# Altium footprint library KF128_3.18mm.PcbLib: 15 footprints
Each footprint in its own frame and in the unit in brackets; x right, y up, seen from the top. Pads: shape width x height; smd on the part's side, far side on the other; paste and mask are expansions set on the pad; w line width, h text height; cw(c..) or ccw(c..) is an arc to the next point about the centre after c.
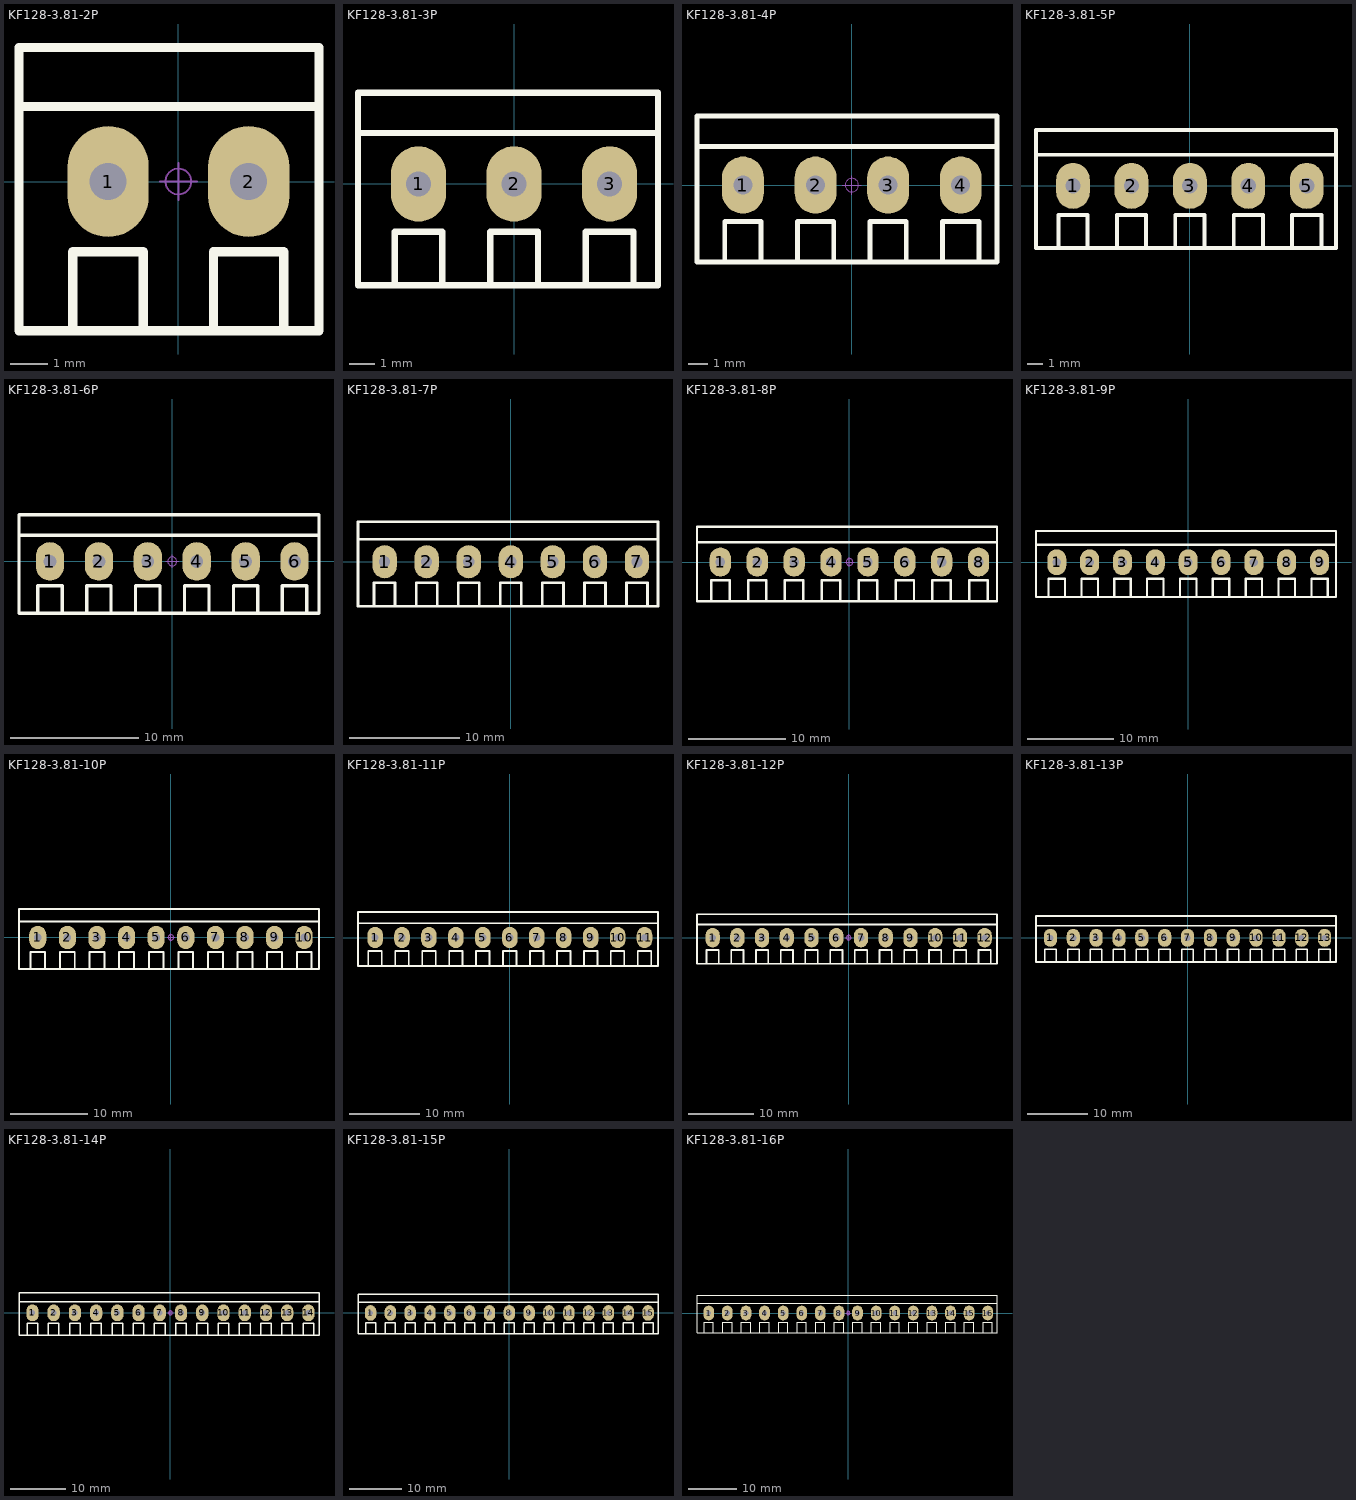
[diagram p0: the footprints below, top view; thin cyan lines are the x and y axes]

## KF128-3.81-2P [mm] "Screw Connector, Pitch 3.81mm"
pads (2):
  oval 2.2x3 hole 1: 1(-1.905,0) 2(1.905,0)
Top Overlay:
  lines w0.254: -4.318,2.032 3.81,2.032 ; -2.857,-4.039 -2.857,-1.905 -0.953,-1.905 -0.953,-4.039 ; 0.953,-4.039 0.953,-1.905 2.857,-1.905 2.857,-4.039 ; -4.318,-4.039 -4.318,3.632 3.81,3.632 3.81,-4.039 -4.318,-4.039
Mechanical 15:
  circle w0.05: c0,0 r0.35
  lines w0.05: -0.5,0 0.5,0 ; 0,-0.5 0,0.5
3D body "KF128.STEP": height 8.55, standoff -3.95, extent -0.5,-3.9 3.81,3.5
3D body "KF128.STEP": height 8.55, standoff -3.95, extent -4.31,-3.9 0,3.5

## KF128-3.81-3P [mm] "Screw Connector, Pitch 3.81mm"
pads (3):
  oval 2.2x3 hole 1: 1(-3.81,0) 2(0,0) 3(3.81,0)
Top Overlay:
  lines w0.254: -6.223,2.032 5.74,2.032 ; -4.763,-4.039 -4.763,-1.905 -2.857,-1.905 -2.857,-4.039 ; -0.953,-4.039 -0.953,-1.905 0.953,-1.905 0.953,-4.039 ; 2.857,-4.039 2.857,-1.905 4.763,-1.905 4.763,-4.039 ; -6.223,-4.039 -6.223,3.632 5.74,3.632 5.74,-4.039 -6.223,-4.039
Mechanical 15:
  circle w0.05: c0,0 r0.35
  lines w0.05: -0.5,0 0.5,0 ; 0,-0.5 0,0.5
3D body "KF128.STEP": height 8.55, standoff -3.95, extent -2.405,-3.9 1.905,3.5
3D body "KF128.STEP": height 8.55, standoff -3.95, extent -6.215,-3.9 -1.905,3.5
3D body "KF128.STEP": height 8.55, standoff -3.95, extent 1.405,-3.9 5.715,3.5

## KF128-3.81-4P [mm] "Screw Connector, Pitch 3.81mm"
pads (4):
  oval 2.2x3 hole 1: 1(-5.715,0) 2(-1.905,0) 3(1.905,0) 4(5.715,0)
Top Overlay:
  lines w0.254: -8.128,2.032 7.62,2.032 ; -6.667,-4.039 -6.667,-1.905 -4.763,-1.905 -4.763,-4.039 ; -2.857,-4.039 -2.857,-1.905 -0.953,-1.905 -0.953,-4.039 ; 0.953,-4.039 0.953,-1.905 2.857,-1.905 2.857,-4.039 ; 4.763,-4.039 4.763,-1.905 6.667,-1.905 6.667,-4.039 ; -8.128,-4.039 7.62,-4.039 7.62,3.632 -8.128,3.632 -8.128,-4.039
Mechanical 15:
  circle w0.05: c0,0 r0.35
  lines w0.05: -0.5,0 0.5,0 ; 0,-0.5 0,0.5
3D body "KF128.STEP": height 8.55, standoff -3.95, extent -8.12,-3.9 -3.81,3.5
3D body "KF128.STEP": height 8.55, standoff -3.95, extent -4.31,-3.9 0,3.5
3D body "KF128.STEP": height 8.55, standoff -3.95, extent 3.31,-3.9 7.62,3.5
3D body "KF128.STEP": height 8.55, standoff -3.95, extent -0.5,-3.9 3.81,3.5

## KF128-3.81-5P [mm] "Screw Connector, Pitch 3.81mm"
pads (5):
  oval 2.2x3 hole 1: 1(-7.62,0) 2(-3.81,0) 3(0,0) 4(3.81,0) 5(7.62,0)
Top Overlay:
  lines w0.254: -10.033,2.032 9.525,2.032 ; -8.572,-4.039 -8.572,-1.905 -6.667,-1.905 -6.667,-4.039 ; -4.763,-4.039 -4.763,-1.905 -2.857,-1.905 -2.857,-4.039 ; -0.953,-4.039 -0.953,-1.905 0.953,-1.905 0.953,-4.039 ; 2.857,-4.039 2.857,-1.905 4.763,-1.905 4.763,-4.039 ; 6.667,-4.039 6.667,-1.905 8.572,-1.905 8.572,-4.039 ; -10.033,-4.039 -10.033,3.632 9.525,3.632 9.525,-4.039 -10.033,-4.039
Mechanical 15:
  circle w0.05: c0,0 r0.35
  lines w0.05: -0.5,0 0.5,0 ; 0,-0.5 0,0.5
3D body "KF128.STEP": height 8.55, standoff -3.95, extent -2.405,-3.9 1.905,3.5
3D body "KF128.STEP": height 8.55, standoff -3.95, extent 1.405,-3.9 5.715,3.5
3D body "KF128.STEP": height 8.55, standoff -3.95, extent -6.215,-3.9 -1.905,3.5
3D body "KF128.STEP": height 8.55, standoff -3.95, extent -10.025,-3.9 -5.715,3.5
3D body "KF128.STEP": height 8.55, standoff -3.95, extent 5.215,-3.9 9.525,3.5

## KF128-3.81-6P [mm] "Screw Connector, Pitch 3.81mm"
pads (6):
  oval 2.2x3 hole 1: 1(-9.525,0) 2(-5.715,0) 3(-1.905,0) 4(1.905,0) 5(5.715,0) 6(9.525,0)
Top Overlay:
  lines w0.254: -11.938,2.032 11.43,2.032 ; -10.477,-4.039 -10.477,-1.905 -8.572,-1.905 -8.572,-4.039 ; -6.667,-4.039 -6.667,-1.905 -4.763,-1.905 -4.763,-4.039 ; -2.857,-4.039 -2.857,-1.905 -0.953,-1.905 -0.953,-4.039 ; 0.953,-4.039 0.953,-1.905 2.857,-1.905 2.857,-4.039 ; 4.763,-4.039 4.763,-1.905 6.667,-1.905 6.667,-4.039 ; 8.572,-4.039 8.572,-1.905 10.477,-1.905 10.477,-4.039 ; -11.938,-4.039 11.43,-4.039 11.43,3.632 -11.938,3.632 -11.938,-4.039
Mechanical 15:
  circle w0.05: c0,0 r0.35
  lines w0.05: -0.5,0 0.5,0 ; 0,-0.5 0,0.5
3D body "KF128.STEP": height 8.55, standoff -3.95, extent 3.31,-3.9 7.62,3.5
3D body "KF128.STEP": height 8.55, standoff -3.95, extent -11.93,-3.9 -7.62,3.5
3D body "KF128.STEP": height 8.55, standoff -3.95, extent -8.12,-3.9 -3.81,3.5
3D body "KF128.STEP": height 8.55, standoff -3.95, extent -0.5,-3.9 3.81,3.5
3D body "KF128.STEP": height 8.55, standoff -3.95, extent -4.31,-3.9 0,3.5
3D body "KF128.STEP": height 8.55, standoff -3.95, extent 7.12,-3.9 11.43,3.5

## KF128-3.81-7P [mm] "Screw Connector, Pitch 3.81mm"
pads (7):
  oval 2.2x3 hole 1: 1(-11.43,0) 2(-7.62,0) 3(-3.81,0) 4(0,0) 5(3.81,0) 6(7.62,0) 7(11.43,0)
Top Overlay:
  lines w0.254: -13.843,2.032 13.335,2.032 ; -12.383,-4.039 -12.383,-1.905 -10.477,-1.905 -10.477,-4.039 ; -8.572,-4.039 -8.572,-1.905 -6.667,-1.905 -6.667,-4.039 ; -4.763,-4.039 -4.763,-1.905 -2.857,-1.905 -2.857,-4.039 ; -0.953,-4.039 -0.953,-1.905 0.953,-1.905 0.953,-4.039 ; 2.857,-4.039 2.857,-1.905 4.763,-1.905 4.763,-4.039 ; 6.667,-4.039 6.667,-1.905 8.572,-1.905 8.572,-4.039 ; 10.477,-4.039 10.477,-1.905 12.383,-1.905 12.383,-4.039 ; -13.843,-4.039 13.335,-4.039 13.335,3.632 -13.843,3.632 -13.843,-4.039
Mechanical 15:
  circle w0.05: c0,0 r0.35
  lines w0.05: -0.5,0 0.5,0 ; 0,-0.5 0,0.5
3D body "KF128.STEP": height 8.55, standoff -3.95, extent 1.405,-3.9 5.715,3.5
3D body "KF128.STEP": height 8.55, standoff -3.95, extent -13.835,-3.9 -9.525,3.5
3D body "KF128.STEP": height 8.55, standoff -3.95, extent -10.025,-3.9 -5.715,3.5
3D body "KF128.STEP": height 8.55, standoff -3.95, extent -2.405,-3.9 1.905,3.5
3D body "KF128.STEP": height 8.55, standoff -3.95, extent -6.215,-3.9 -1.905,3.5
3D body "KF128.STEP": height 8.55, standoff -3.95, extent 5.215,-3.9 9.525,3.5
3D body "KF128.STEP": height 8.55, standoff -3.95, extent 9.025,-3.9 13.335,3.5

## KF128-3.81-8P [mm] "Screw Connector, Pitch 3.81mm"
pads (8):
  oval 2.2x3 hole 1: 1(-13.335,0) 2(-9.525,0) 3(-5.715,0) 4(-1.905,0) 5(1.905,0) 6(5.715,0) 7(9.525,0) 8(13.335,0)
Top Overlay:
  lines w0.254: -15.748,2.032 15.24,2.032 ; -14.287,-4.039 -14.287,-1.905 -12.383,-1.905 -12.383,-4.039 ; -10.477,-4.039 -10.477,-1.905 -8.572,-1.905 -8.572,-4.039 ; -6.667,-4.039 -6.667,-1.905 -4.763,-1.905 -4.763,-4.039 ; -2.857,-4.039 -2.857,-1.905 -0.953,-1.905 -0.953,-4.039 ; 0.953,-4.039 0.953,-1.905 2.857,-1.905 2.857,-4.039 ; 4.763,-4.039 4.763,-1.905 6.667,-1.905 6.667,-4.039 ; 8.572,-4.039 8.572,-1.905 10.477,-1.905 10.477,-4.039 ; 12.383,-4.039 12.383,-1.905 14.287,-1.905 14.287,-4.039 ; -15.748,-4.039 15.24,-4.039 15.24,3.632 -15.748,3.632 -15.748,-4.039
Mechanical 15:
  circle w0.05: c0,0 r0.35
  lines w0.05: -0.5,0 0.5,0 ; 0,-0.5 0,0.5
3D body "KF128.STEP": height 8.55, standoff -3.95, extent 10.93,-3.9 15.24,3.5
3D body "KF128.STEP": height 8.55, standoff -3.95, extent -0.5,-3.9 3.81,3.5
3D body "KF128.STEP": height 8.55, standoff -3.95, extent -15.74,-3.9 -11.43,3.5
3D body "KF128.STEP": height 8.55, standoff -3.95, extent -11.93,-3.9 -7.62,3.5
3D body "KF128.STEP": height 8.55, standoff -3.95, extent -4.31,-3.9 0,3.5
3D body "KF128.STEP": height 8.55, standoff -3.95, extent -8.12,-3.9 -3.81,3.5
3D body "KF128.STEP": height 8.55, standoff -3.95, extent 3.31,-3.9 7.62,3.5
3D body "KF128.STEP": height 8.55, standoff -3.95, extent 7.12,-3.9 11.43,3.5

## KF128-3.81-9P [mm] "Screw Connector, Pitch 3.81mm"
pads (9):
  oval 2.2x3 hole 1: 1(-15.24,0) 2(-11.43,0) 3(-7.62,0) 4(-3.81,0) 5(0,0) 6(3.81,0) 7(7.62,0) 8(11.43,0) 9(15.24,0)
Top Overlay:
  lines w0.254: -17.653,2.032 17.145,2.032 ; -16.192,-4.039 -16.192,-1.905 -14.287,-1.905 -14.287,-4.039 ; -12.383,-4.039 -12.383,-1.905 -10.477,-1.905 -10.477,-4.039 ; -8.572,-4.039 -8.572,-1.905 -6.667,-1.905 -6.667,-4.039 ; -4.763,-4.039 -4.763,-1.905 -2.857,-1.905 -2.857,-4.039 ; -0.953,-4.039 -0.953,-1.905 0.953,-1.905 0.953,-4.039 ; 2.857,-4.039 2.857,-1.905 4.763,-1.905 4.763,-4.039 ; 6.667,-4.039 6.667,-1.905 8.572,-1.905 8.572,-4.039 ; 10.477,-4.039 10.477,-1.905 12.383,-1.905 12.383,-4.039 ; 14.287,-4.039 14.287,-1.905 16.192,-1.905 16.192,-4.039 ; -17.653,-4.039 -17.653,3.632 17.145,3.632 17.145,-4.039 -17.653,-4.039
Mechanical 15:
  circle w0.05: c0,0 r0.35
  lines w0.05: -0.5,0 0.5,0 ; 0,-0.5 0,0.5
3D body "KF128.STEP": height 8.55, standoff -3.95, extent 12.835,-3.9 17.145,3.5
3D body "KF128.STEP": height 8.55, standoff -3.95, extent 5.215,-3.9 9.525,3.5
3D body "KF128.STEP": height 8.55, standoff -3.95, extent 1.405,-3.9 5.715,3.5
3D body "KF128.STEP": height 8.55, standoff -3.95, extent -10.025,-3.9 -5.715,3.5
3D body "KF128.STEP": height 8.55, standoff -3.95, extent -6.215,-3.9 -1.905,3.5
3D body "KF128.STEP": height 8.55, standoff -3.95, extent -13.835,-3.9 -9.525,3.5
3D body "KF128.STEP": height 8.55, standoff -3.95, extent -17.645,-3.9 -13.335,3.5
3D body "KF128.STEP": height 8.55, standoff -3.95, extent -2.405,-3.9 1.905,3.5
3D body "KF128.STEP": height 8.55, standoff -3.95, extent 9.025,-3.9 13.335,3.5

## KF128-3.81-10P [mm] "Screw Connector, Pitch 3.81mm"
pads (10):
  oval 2.2x3 hole 1: 1(-17.145,0) 2(-13.335,0) 3(-9.525,0) 4(-5.715,0) 5(-1.905,0) 6(1.905,0) 7(5.715,0) 8(9.525,0) 9(13.335,0) 10(17.145,0)
Top Overlay:
  lines w0.254: -19.558,2.032 19.05,2.032 ; -18.098,-4.039 -18.098,-1.905 -16.192,-1.905 -16.192,-4.039 ; -14.287,-4.039 -14.287,-1.905 -12.383,-1.905 -12.383,-4.039 ; -10.477,-4.039 -10.477,-1.905 -8.572,-1.905 -8.572,-4.039 ; -6.667,-4.039 -6.667,-1.905 -4.763,-1.905 -4.763,-4.039 ; -2.857,-4.039 -2.857,-1.905 -0.953,-1.905 -0.953,-4.039 ; 0.953,-4.039 0.953,-1.905 2.857,-1.905 2.857,-4.039 ; 4.763,-4.039 4.763,-1.905 6.667,-1.905 6.667,-4.039 ; 8.572,-4.039 8.572,-1.905 10.477,-1.905 10.477,-4.039 ; 12.383,-4.039 12.383,-1.905 14.287,-1.905 14.287,-4.039 ; 16.192,-4.039 16.192,-1.905 18.098,-1.905 18.098,-4.039 ; -19.558,-4.039 19.05,-4.039 19.05,3.632 -19.558,3.632 -19.558,-4.039
Mechanical 15:
  circle w0.05: c0,0 r0.35
  lines w0.05: -0.5,0 0.5,0 ; 0,-0.5 0,0.5
3D body "KF128.STEP": height 8.55, standoff -3.95, extent 14.74,-3.9 19.05,3.5
3D body "KF128.STEP": height 8.55, standoff -3.95, extent 7.12,-3.9 11.43,3.5
3D body "KF128.STEP": height 8.55, standoff -3.95, extent -4.31,-3.9 0,3.5
3D body "KF128.STEP": height 8.55, standoff -3.95, extent -19.55,-3.9 -15.24,3.5
3D body "KF128.STEP": height 8.55, standoff -3.95, extent -15.74,-3.9 -11.43,3.5
3D body "KF128.STEP": height 8.55, standoff -3.95, extent -8.12,-3.9 -3.81,3.5
3D body "KF128.STEP": height 8.55, standoff -3.95, extent -11.93,-3.9 -7.62,3.5
3D body "KF128.STEP": height 8.55, standoff -3.95, extent -0.5,-3.9 3.81,3.5
3D body "KF128.STEP": height 8.55, standoff -3.95, extent 3.31,-3.9 7.62,3.5
3D body "KF128.STEP": height 8.55, standoff -3.95, extent 10.93,-3.9 15.24,3.5

## KF128-3.81-11P [mm] "Screw Connector, Pitch 3.81mm"
pads (11):
  oval 2.2x3 hole 1: 1(-19.05,0) 2(-15.24,0) 3(-11.43,0) 4(-7.62,0) 5(-3.81,0) 6(0,0) 7(3.81,0) 8(7.62,0) 9(11.43,0) 10(15.24,0) 11(19.05,0)
Top Overlay:
  lines w0.254: -21.463,2.032 20.955,2.032 ; -20.002,-4.039 -20.002,-1.905 -18.098,-1.905 -18.098,-4.039 ; -16.192,-4.039 -16.192,-1.905 -14.287,-1.905 -14.287,-4.039 ; -12.383,-4.039 -12.383,-1.905 -10.477,-1.905 -10.477,-4.039 ; -8.572,-4.039 -8.572,-1.905 -6.667,-1.905 -6.667,-4.039 ; -4.763,-4.039 -4.763,-1.905 -2.857,-1.905 -2.857,-4.039 ; -0.953,-4.039 -0.953,-1.905 0.953,-1.905 0.953,-4.039 ; 2.857,-4.039 2.857,-1.905 4.763,-1.905 4.763,-4.039 ; 6.667,-4.039 6.667,-1.905 8.572,-1.905 8.572,-4.039 ; 10.477,-4.039 10.477,-1.905 12.383,-1.905 12.383,-4.039 ; 14.287,-4.039 14.287,-1.905 16.192,-1.905 16.192,-4.039 ; 18.098,-4.039 18.098,-1.905 20.002,-1.905 20.002,-4.039 ; -21.463,-4.039 -21.463,3.632 20.955,3.632 20.955,-4.039 -21.463,-4.039
Mechanical 15:
  circle w0.05: c0,0 r0.35
  lines w0.05: -0.5,0 0.5,0 ; 0,-0.5 0,0.5
3D body "KF128.STEP": height 8.55, standoff -3.95, extent 16.645,-3.9 20.955,3.5
3D body "KF128.STEP": height 8.55, standoff -3.95, extent 9.025,-3.9 13.335,3.5
3D body "KF128.STEP": height 8.55, standoff -3.95, extent 1.405,-3.9 5.715,3.5
3D body "KF128.STEP": height 8.55, standoff -3.95, extent -2.405,-3.9 1.905,3.5
3D body "KF128.STEP": height 8.55, standoff -3.95, extent -13.835,-3.9 -9.525,3.5
3D body "KF128.STEP": height 8.55, standoff -3.95, extent -10.025,-3.9 -5.715,3.5
3D body "KF128.STEP": height 8.55, standoff -3.95, extent -17.645,-3.9 -13.335,3.5
3D body "KF128.STEP": height 8.55, standoff -3.95, extent -21.455,-3.9 -17.145,3.5
3D body "KF128.STEP": height 8.55, standoff -3.95, extent -6.215,-3.9 -1.905,3.5
3D body "KF128.STEP": height 8.55, standoff -3.95, extent 5.215,-3.9 9.525,3.5
3D body "KF128.STEP": height 8.55, standoff -3.95, extent 12.835,-3.9 17.145,3.5

## KF128-3.81-12P [mm] "Screw Connector, Pitch 3.81mm"
pads (12):
  oval 2.2x3 hole 1: 1(-20.955,0) 2(-17.145,0) 3(-13.335,0) 4(-9.525,0) 5(-5.715,0) 6(-1.905,0) 7(1.905,0) 8(5.715,0) 9(9.525,0) 10(13.335,0) 11(17.145,0) 12(20.955,0)
Top Overlay:
  lines w0.254: -23.368,2.032 22.86,2.032 ; -21.907,-4.039 -21.907,-1.905 -20.002,-1.905 -20.002,-4.039 ; -18.098,-4.039 -18.098,-1.905 -16.192,-1.905 -16.192,-4.039 ; -14.287,-4.039 -14.287,-1.905 -12.383,-1.905 -12.383,-4.039 ; -10.477,-4.039 -10.477,-1.905 -8.572,-1.905 -8.572,-4.039 ; -6.667,-4.039 -6.667,-1.905 -4.763,-1.905 -4.763,-4.039 ; -2.857,-4.039 -2.857,-1.905 -0.953,-1.905 -0.953,-4.039 ; 0.953,-4.039 0.953,-1.905 2.857,-1.905 2.857,-4.039 ; 4.763,-4.039 4.763,-1.905 6.667,-1.905 6.667,-4.039 ; 8.572,-4.039 8.572,-1.905 10.477,-1.905 10.477,-4.039 ; 12.383,-4.039 12.383,-1.905 14.287,-1.905 14.287,-4.039 ; 16.192,-4.039 16.192,-1.905 18.098,-1.905 18.098,-4.039 ; 20.002,-4.039 20.002,-1.905 21.907,-1.905 21.907,-4.039 ; -23.368,-4.039 -23.368,3.632 22.86,3.632 22.86,-4.039 -23.368,-4.039
Mechanical 15:
  circle w0.05: c0,0 r0.35
  lines w0.05: -0.5,0 0.5,0 ; 0,-0.5 0,0.5
3D body "KF128.STEP": height 8.55, standoff -3.95, extent 14.74,-3.9 19.05,3.5
3D body "KF128.STEP": height 8.55, standoff -3.95, extent 7.12,-3.9 11.43,3.5
3D body "KF128.STEP": height 8.55, standoff -3.95, extent -0.5,-3.9 3.81,3.5
3D body "KF128.STEP": height 8.55, standoff -3.95, extent -4.31,-3.9 0,3.5
3D body "KF128.STEP": height 8.55, standoff -3.95, extent -15.74,-3.9 -11.43,3.5
3D body "KF128.STEP": height 8.55, standoff -3.95, extent -11.93,-3.9 -7.62,3.5
3D body "KF128.STEP": height 8.55, standoff -3.95, extent -19.55,-3.9 -15.24,3.5
3D body "KF128.STEP": height 8.55, standoff -3.95, extent -23.36,-3.9 -19.05,3.5
3D body "KF128.STEP": height 8.55, standoff -3.95, extent -8.12,-3.9 -3.81,3.5
3D body "KF128.STEP": height 8.55, standoff -3.95, extent 3.31,-3.9 7.62,3.5
3D body "KF128.STEP": height 8.55, standoff -3.95, extent 10.93,-3.9 15.24,3.5
3D body "KF128.STEP": height 8.55, standoff -3.95, extent 18.55,-3.9 22.86,3.5

## KF128-3.81-13P [mm] "Screw Connector, Pitch 3.81mm"
pads (13):
  oval 2.2x3 hole 1: 1(-22.86,0) 2(-19.05,0) 3(-15.24,0) 4(-11.43,0) 5(-7.62,0) 6(-3.81,0) 7(0,0) 8(3.81,0) 9(7.62,0) 10(11.43,0) 11(15.24,0) 12(19.05,0) 13(22.86,0)
Top Overlay:
  lines w0.254: -25.273,2.032 24.765,2.032 ; -23.812,-4.039 -23.812,-1.905 -21.907,-1.905 -21.907,-4.039 ; -20.002,-4.039 -20.002,-1.905 -18.098,-1.905 -18.098,-4.039 ; -16.192,-4.039 -16.192,-1.905 -14.287,-1.905 -14.287,-4.039 ; -12.383,-4.039 -12.383,-1.905 -10.477,-1.905 -10.477,-4.039 ; -8.572,-4.039 -8.572,-1.905 -6.667,-1.905 -6.667,-4.039 ; -4.763,-4.039 -4.763,-1.905 -2.857,-1.905 -2.857,-4.039 ; -0.953,-4.039 -0.953,-1.905 0.953,-1.905 0.953,-4.039 ; 2.857,-4.039 2.857,-1.905 4.763,-1.905 4.763,-4.039 ; 6.667,-4.039 6.667,-1.905 8.572,-1.905 8.572,-4.039 ; 10.477,-4.039 10.477,-1.905 12.383,-1.905 12.383,-4.039 ; 14.287,-4.039 14.287,-1.905 16.192,-1.905 16.192,-4.039 ; 18.098,-4.039 18.098,-1.905 20.002,-1.905 20.002,-4.039 ; 21.907,-4.039 21.907,-1.905 23.812,-1.905 23.812,-4.039 ; -25.273,-4.039 24.765,-4.039 24.765,3.632 -25.273,3.632 -25.273,-4.039
Mechanical 15:
  circle w0.05: c0,0 r0.35
  lines w0.05: -0.5,0 0.5,0 ; 0,-0.5 0,0.5
3D body "KF128.STEP": height 8.55, standoff -3.95, extent 16.645,-3.9 20.955,3.5
3D body "KF128.STEP": height 8.55, standoff -3.95, extent 9.025,-3.9 13.335,3.5
3D body "KF128.STEP": height 8.55, standoff -3.95, extent 1.405,-3.9 5.715,3.5
3D body "KF128.STEP": height 8.55, standoff -3.95, extent -10.025,-3.9 -5.715,3.5
3D body "KF128.STEP": height 8.55, standoff -3.95, extent -25.265,-3.9 -20.955,3.5
3D body "KF128.STEP": height 8.55, standoff -3.95, extent -21.455,-3.9 -17.145,3.5
3D body "KF128.STEP": height 8.55, standoff -3.95, extent -13.835,-3.9 -9.525,3.5
3D body "KF128.STEP": height 8.55, standoff -3.95, extent -17.645,-3.9 -13.335,3.5
3D body "KF128.STEP": height 8.55, standoff -3.95, extent -6.215,-3.9 -1.905,3.5
3D body "KF128.STEP": height 8.55, standoff -3.95, extent -2.405,-3.9 1.905,3.5
3D body "KF128.STEP": height 8.55, standoff -3.95, extent 5.215,-3.9 9.525,3.5
3D body "KF128.STEP": height 8.55, standoff -3.95, extent 12.835,-3.9 17.145,3.5
3D body "KF128.STEP": height 8.55, standoff -3.95, extent 20.455,-3.9 24.765,3.5

## KF128-3.81-14P [mm] "Screw Connector, Pitch 3.81mm"
pads (14):
  oval 2.2x3 hole 1: 1(-24.765,0) 2(-20.955,0) 3(-17.145,0) 4(-13.335,0) 5(-9.525,0) 6(-5.715,0) 7(-1.905,0) 8(1.905,0) 9(5.715,0) 10(9.525,0) 11(13.335,0) 12(17.145,0) 13(20.955,0) 14(24.765,0)
Top Overlay:
  lines w0.254: -27.178,2.032 26.67,2.032 ; -25.717,-4.039 -25.717,-1.905 -23.812,-1.905 -23.812,-4.039 ; -21.907,-4.039 -21.907,-1.905 -20.002,-1.905 -20.002,-4.039 ; -18.098,-4.039 -18.098,-1.905 -16.192,-1.905 -16.192,-4.039 ; -14.287,-4.039 -14.287,-1.905 -12.383,-1.905 -12.383,-4.039 ; -10.477,-4.039 -10.477,-1.905 -8.572,-1.905 -8.572,-4.039 ; -6.667,-4.039 -6.667,-1.905 -4.763,-1.905 -4.763,-4.039 ; -2.857,-4.039 -2.857,-1.905 -0.953,-1.905 -0.953,-4.039 ; 0.953,-4.039 0.953,-1.905 2.857,-1.905 2.857,-4.039 ; 4.763,-4.039 4.763,-1.905 6.667,-1.905 6.667,-4.039 ; 8.572,-4.039 8.572,-1.905 10.477,-1.905 10.477,-4.039 ; 12.383,-4.039 12.383,-1.905 14.287,-1.905 14.287,-4.039 ; 16.192,-4.039 16.192,-1.905 18.098,-1.905 18.098,-4.039 ; 20.002,-4.039 20.002,-1.905 21.907,-1.905 21.907,-4.039 ; 23.812,-4.039 23.812,-1.905 25.717,-1.905 25.717,-4.039 ; -27.178,-4.039 -27.178,3.632 26.67,3.632 26.67,-4.039 -27.178,-4.039
Mechanical 15:
  circle w0.05: c0,0 r0.35
  lines w0.05: -0.5,0 0.5,0 ; 0,-0.5 0,0.5
3D body "KF128.STEP": height 8.55, standoff -3.95, extent 22.36,-3.9 26.67,3.5
3D body "KF128.STEP": height 8.55, standoff -3.95, extent 18.55,-3.9 22.86,3.5
3D body "KF128.STEP": height 8.55, standoff -3.95, extent 10.93,-3.9 15.24,3.5
3D body "KF128.STEP": height 8.55, standoff -3.95, extent 3.31,-3.9 7.62,3.5
3D body "KF128.STEP": height 8.55, standoff -3.95, extent -4.31,-3.9 0,3.5
3D body "KF128.STEP": height 8.55, standoff -3.95, extent -8.12,-3.9 -3.81,3.5
3D body "KF128.STEP": height 8.55, standoff -3.95, extent -19.55,-3.9 -15.24,3.5
3D body "KF128.STEP": height 8.55, standoff -3.95, extent -15.74,-3.9 -11.43,3.5
3D body "KF128.STEP": height 8.55, standoff -3.95, extent -23.36,-3.9 -19.05,3.5
3D body "KF128.STEP": height 8.55, standoff -3.95, extent -27.17,-3.9 -22.86,3.5
3D body "KF128.STEP": height 8.55, standoff -3.95, extent -11.93,-3.9 -7.62,3.5
3D body "KF128.STEP": height 8.55, standoff -3.95, extent -0.5,-3.9 3.81,3.5
3D body "KF128.STEP": height 8.55, standoff -3.95, extent 7.12,-3.9 11.43,3.5
3D body "KF128.STEP": height 8.55, standoff -3.95, extent 14.74,-3.9 19.05,3.5

## KF128-3.81-15P [mm] "Screw Connector, Pitch 3.81mm"
pads (15):
  oval 2.2x3 hole 1: 1(-26.67,0) 2(-22.86,0) 3(-19.05,0) 4(-15.24,0) 5(-11.43,0) 6(-7.62,0) 7(-3.81,0) 8(0,0) 9(3.81,0) 10(7.62,0) 11(11.43,0) 12(15.24,0) 13(19.05,0) 14(22.86,0) 15(26.67,0)
Top Overlay:
  lines w0.254: -29.083,2.032 28.575,2.032 ; -27.622,-4.039 -27.622,-1.905 -25.717,-1.905 -25.717,-4.039 ; -23.812,-4.039 -23.812,-1.905 -21.907,-1.905 -21.907,-4.039 ; -20.002,-4.039 -20.002,-1.905 -18.098,-1.905 -18.098,-4.039 ; -16.192,-4.039 -16.192,-1.905 -14.287,-1.905 -14.287,-4.039 ; -12.383,-4.039 -12.383,-1.905 -10.477,-1.905 -10.477,-4.039 ; -8.572,-4.039 -8.572,-1.905 -6.667,-1.905 -6.667,-4.039 ; -4.763,-4.039 -4.763,-1.905 -2.857,-1.905 -2.857,-4.039 ; -0.953,-4.039 -0.953,-1.905 0.953,-1.905 0.953,-4.039 ; 2.857,-4.039 2.857,-1.905 4.763,-1.905 4.763,-4.039 ; 6.667,-4.039 6.667,-1.905 8.572,-1.905 8.572,-4.039 ; 10.477,-4.039 10.477,-1.905 12.383,-1.905 12.383,-4.039 ; 14.287,-4.039 14.287,-1.905 16.192,-1.905 16.192,-4.039 ; 18.098,-4.039 18.098,-1.905 20.002,-1.905 20.002,-4.039 ; 21.907,-4.039 21.907,-1.905 23.812,-1.905 23.812,-4.039 ; 25.717,-4.039 25.717,-1.905 27.622,-1.905 27.622,-4.039 ; -29.083,-4.039 28.575,-4.039 28.575,3.632 -29.083,3.632 -29.083,-4.039
Mechanical 15:
  circle w0.05: c0,0 r0.35
  lines w0.05: -0.5,0 0.5,0 ; 0,-0.5 0,0.5
3D body "KF128.STEP": height 8.55, standoff -3.95, extent 24.265,-3.9 28.575,3.5
3D body "KF128.STEP": height 8.55, standoff -3.95, extent 12.835,-3.9 17.145,3.5
3D body "KF128.STEP": height 8.55, standoff -3.95, extent 5.215,-3.9 9.525,3.5
3D body "KF128.STEP": height 8.55, standoff -3.95, extent -2.405,-3.9 1.905,3.5
3D body "KF128.STEP": height 8.55, standoff -3.95, extent -13.835,-3.9 -9.525,3.5
3D body "KF128.STEP": height 8.55, standoff -3.95, extent -29.075,-3.9 -24.765,3.5
3D body "KF128.STEP": height 8.55, standoff -3.95, extent -25.265,-3.9 -20.955,3.5
3D body "KF128.STEP": height 8.55, standoff -3.95, extent -17.645,-3.9 -13.335,3.5
3D body "KF128.STEP": height 8.55, standoff -3.95, extent -21.455,-3.9 -17.145,3.5
3D body "KF128.STEP": height 8.55, standoff -3.95, extent -10.025,-3.9 -5.715,3.5
3D body "KF128.STEP": height 8.55, standoff -3.95, extent -6.215,-3.9 -1.905,3.5
3D body "KF128.STEP": height 8.55, standoff -3.95, extent 1.405,-3.9 5.715,3.5
3D body "KF128.STEP": height 8.55, standoff -3.95, extent 9.025,-3.9 13.335,3.5
3D body "KF128.STEP": height 8.55, standoff -3.95, extent 16.645,-3.9 20.955,3.5
3D body "KF128.STEP": height 8.55, standoff -3.95, extent 20.455,-3.9 24.765,3.5

## KF128-3.81-16P [mm] "Screw Connector, Pitch 3.81mm"
pads (16):
  oval 2.2x3 hole 1: 1(-28.575,0) 2(-24.765,0) 3(-20.955,0) 4(-17.145,0) 5(-13.335,0) 6(-9.525,0) 7(-5.715,0) 8(-1.905,0) 9(1.905,0) 10(5.715,0) 11(9.525,0) 12(13.335,0) 13(17.145,0) 14(20.955,0) 15(24.765,0) 16(28.575,0)
Top Overlay:
  lines w0.254: -30.988,2.032 30.48,2.032 ; -29.527,-4.039 -29.527,-1.905 -27.622,-1.905 -27.622,-4.039 ; -25.717,-4.039 -25.717,-1.905 -23.812,-1.905 -23.812,-4.039 ; -21.907,-4.039 -21.907,-1.905 -20.002,-1.905 -20.002,-4.039 ; -18.098,-4.039 -18.098,-1.905 -16.192,-1.905 -16.192,-4.039 ; -14.287,-4.039 -14.287,-1.905 -12.383,-1.905 -12.383,-4.039 ; -10.477,-4.039 -10.477,-1.905 -8.572,-1.905 -8.572,-4.039 ; -6.667,-4.039 -6.667,-1.905 -4.763,-1.905 -4.763,-4.039 ; -2.857,-4.039 -2.857,-1.905 -0.953,-1.905 -0.953,-4.039 ; 0.953,-4.039 0.953,-1.905 2.857,-1.905 2.857,-4.039 ; 4.763,-4.039 4.763,-1.905 6.667,-1.905 6.667,-4.039 ; 8.572,-4.039 8.572,-1.905 10.477,-1.905 10.477,-4.039 ; 12.383,-4.039 12.383,-1.905 14.287,-1.905 14.287,-4.039 ; 16.192,-4.039 16.192,-1.905 18.098,-1.905 18.098,-4.039 ; 20.002,-4.039 20.002,-1.905 21.907,-1.905 21.907,-4.039 ; 23.812,-4.039 23.812,-1.905 25.717,-1.905 25.717,-4.039 ; 27.622,-4.039 27.622,-1.905 29.527,-1.905 29.527,-4.039 ; -30.988,-4.039 -30.988,3.632 30.48,3.632 30.48,-4.039 -30.988,-4.039
Mechanical 15:
  circle w0.05: c0,0 r0.35
  lines w0.05: -0.5,0 0.5,0 ; 0,-0.5 0,0.5
3D body "KF128.STEP": height 8.55, standoff -3.95, extent 18.55,-3.9 22.86,3.5
3D body "KF128.STEP": height 8.55, standoff -3.95, extent 14.74,-3.9 19.05,3.5
3D body "KF128.STEP": height 8.55, standoff -3.95, extent 7.12,-3.9 11.43,3.5
3D body "KF128.STEP": height 8.55, standoff -3.95, extent -0.5,-3.9 3.81,3.5
3D body "KF128.STEP": height 8.55, standoff -3.95, extent -8.12,-3.9 -3.81,3.5
3D body "KF128.STEP": height 8.55, standoff -3.95, extent -11.93,-3.9 -7.62,3.5
3D body "KF128.STEP": height 8.55, standoff -3.95, extent -23.36,-3.9 -19.05,3.5
3D body "KF128.STEP": height 8.55, standoff -3.95, extent -19.55,-3.9 -15.24,3.5
3D body "KF128.STEP": height 8.55, standoff -3.95, extent -27.17,-3.9 -22.86,3.5
3D body "KF128.STEP": height 8.55, standoff -3.95, extent -30.98,-3.9 -26.67,3.5
3D body "KF128.STEP": height 8.55, standoff -3.95, extent -15.74,-3.9 -11.43,3.5
3D body "KF128.STEP": height 8.55, standoff -3.95, extent -4.31,-3.9 0,3.5
3D body "KF128.STEP": height 8.55, standoff -3.95, extent 3.31,-3.9 7.62,3.5
3D body "KF128.STEP": height 8.55, standoff -3.95, extent 10.93,-3.9 15.24,3.5
3D body "KF128.STEP": height 8.55, standoff -3.95, extent 22.36,-3.9 26.67,3.5
3D body "KF128.STEP": height 8.55, standoff -3.95, extent 26.17,-3.9 30.48,3.5